# Altium schematic symbol library SYN6288.SchLib: 1 symbol
Pins are listed as number, name and electrical type; pins without a type are passive.

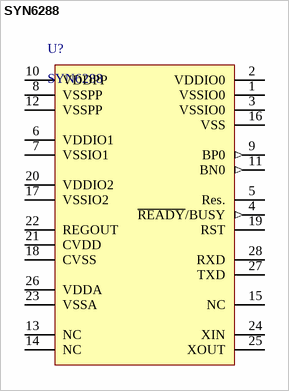
[diagram p0: symbol SYN6288]

## SYN6288
designator U?
pins: 1 VSSIO0 (power), 2 VDDIO0 (power), 3 VSSIO0 (power), 4 ~{READY}/BUSY (out), 5 Res., 6 VDDIO1 (power), 7 VSSIO1 (power), 8 VSSPP (power), 9 BP0 (out), 10 VDDPP (power), 11 BN0 (out), 12 VSSPP (power), 13 NC, 14 NC, 15 NC, 16 VSS (power), 17 VSSIO2 (power), 18 CVSS (power), 19 RST, 20 VDDIO2 (power), 21 CVDD (power), 22 REGOUT (power), 23 VSSA (power), 24 XIN, 25 XOUT, 26 VDDA (power), 27 TXD, 28 RXD